# EAGLE library part INOUTBOARD (library anasoft)
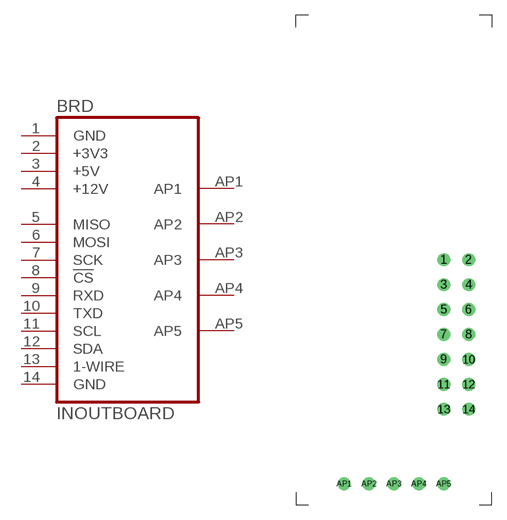
[diagram p12: symbol with the pads of INOUTBOARD; footprint INOUTBOARD]

Designator prefix BRD

## INOUTBOARD  [INOUTBOARD]
1  GND  pwr
2  +3V3  pwr
3  +5V  pwr
4  +12V  pwr
5  MISO  out
6  MOSI  in
7  SCK  in
8  !CS  in
9  RXD  in
10  TXD  out
11  SCL  in
12  SDA
13  1-WIRE
14  GND  pwr
AP1  AP1
AP2  AP2
AP3  AP3
AP4  AP4
AP5  AP5

## Footprint INOUTBOARD (pad centres in mm)
drill 0.8 round: 1 5.08,0; 2 7.62,0; 3 5.08,-2.54; 4 7.62,-2.54; 5 5.08,-5.08; 6 7.62,-5.08; 7 5.08,-7.62; 8 7.62,-7.62; 9 5.08,-10.16; 10 7.62,-10.16; 11 5.08,-12.7; 12 7.62,-12.7; 13 5.08,-15.24; 14 7.62,-15.24; AP1 -5.08,-22.86; AP2 -2.54,-22.86; AP3 0,-22.86; AP4 2.54,-22.86; AP5 5.08,-22.86